# EAGLE library part FDS4935A (library mita-akiba)
Dual 30V P-Channel MOSFET Vth~1.5V 4.5<Vds<20V Ron~20-30mOhm
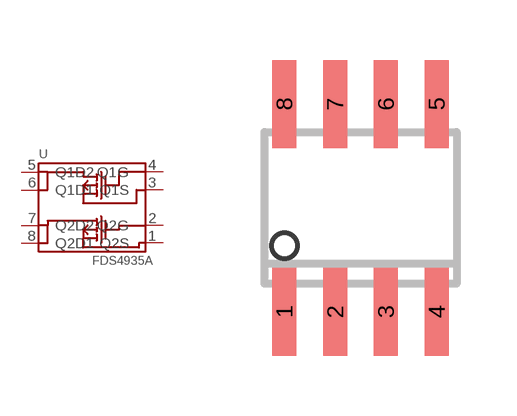
[diagram p39: symbol with the pads of SO8; footprint SO8]

Designator prefix -

## FDS4935A  [SO8]
1  Q2S
2  Q2G
3  Q1S
4  Q1G
5  Q1D2
6  Q1D1
7  Q2D2
8  Q2D1

## Footprint SO8 (pad centres in mm)
SMALL OUTLINE INTEGRATED CIRCUIT
smd 0.6 x 2.2: 1 -1.905,-2.6; 2 -0.635,-2.6; 3 0.635,-2.6; 4 1.905,-2.6; 5 1.905,2.6; 6 0.635,2.6; 7 -0.635,2.6; 8 -1.905,2.6